# Altium schematic symbol library VNA.SCHLIB: 78 symbols (part 2 of 2)
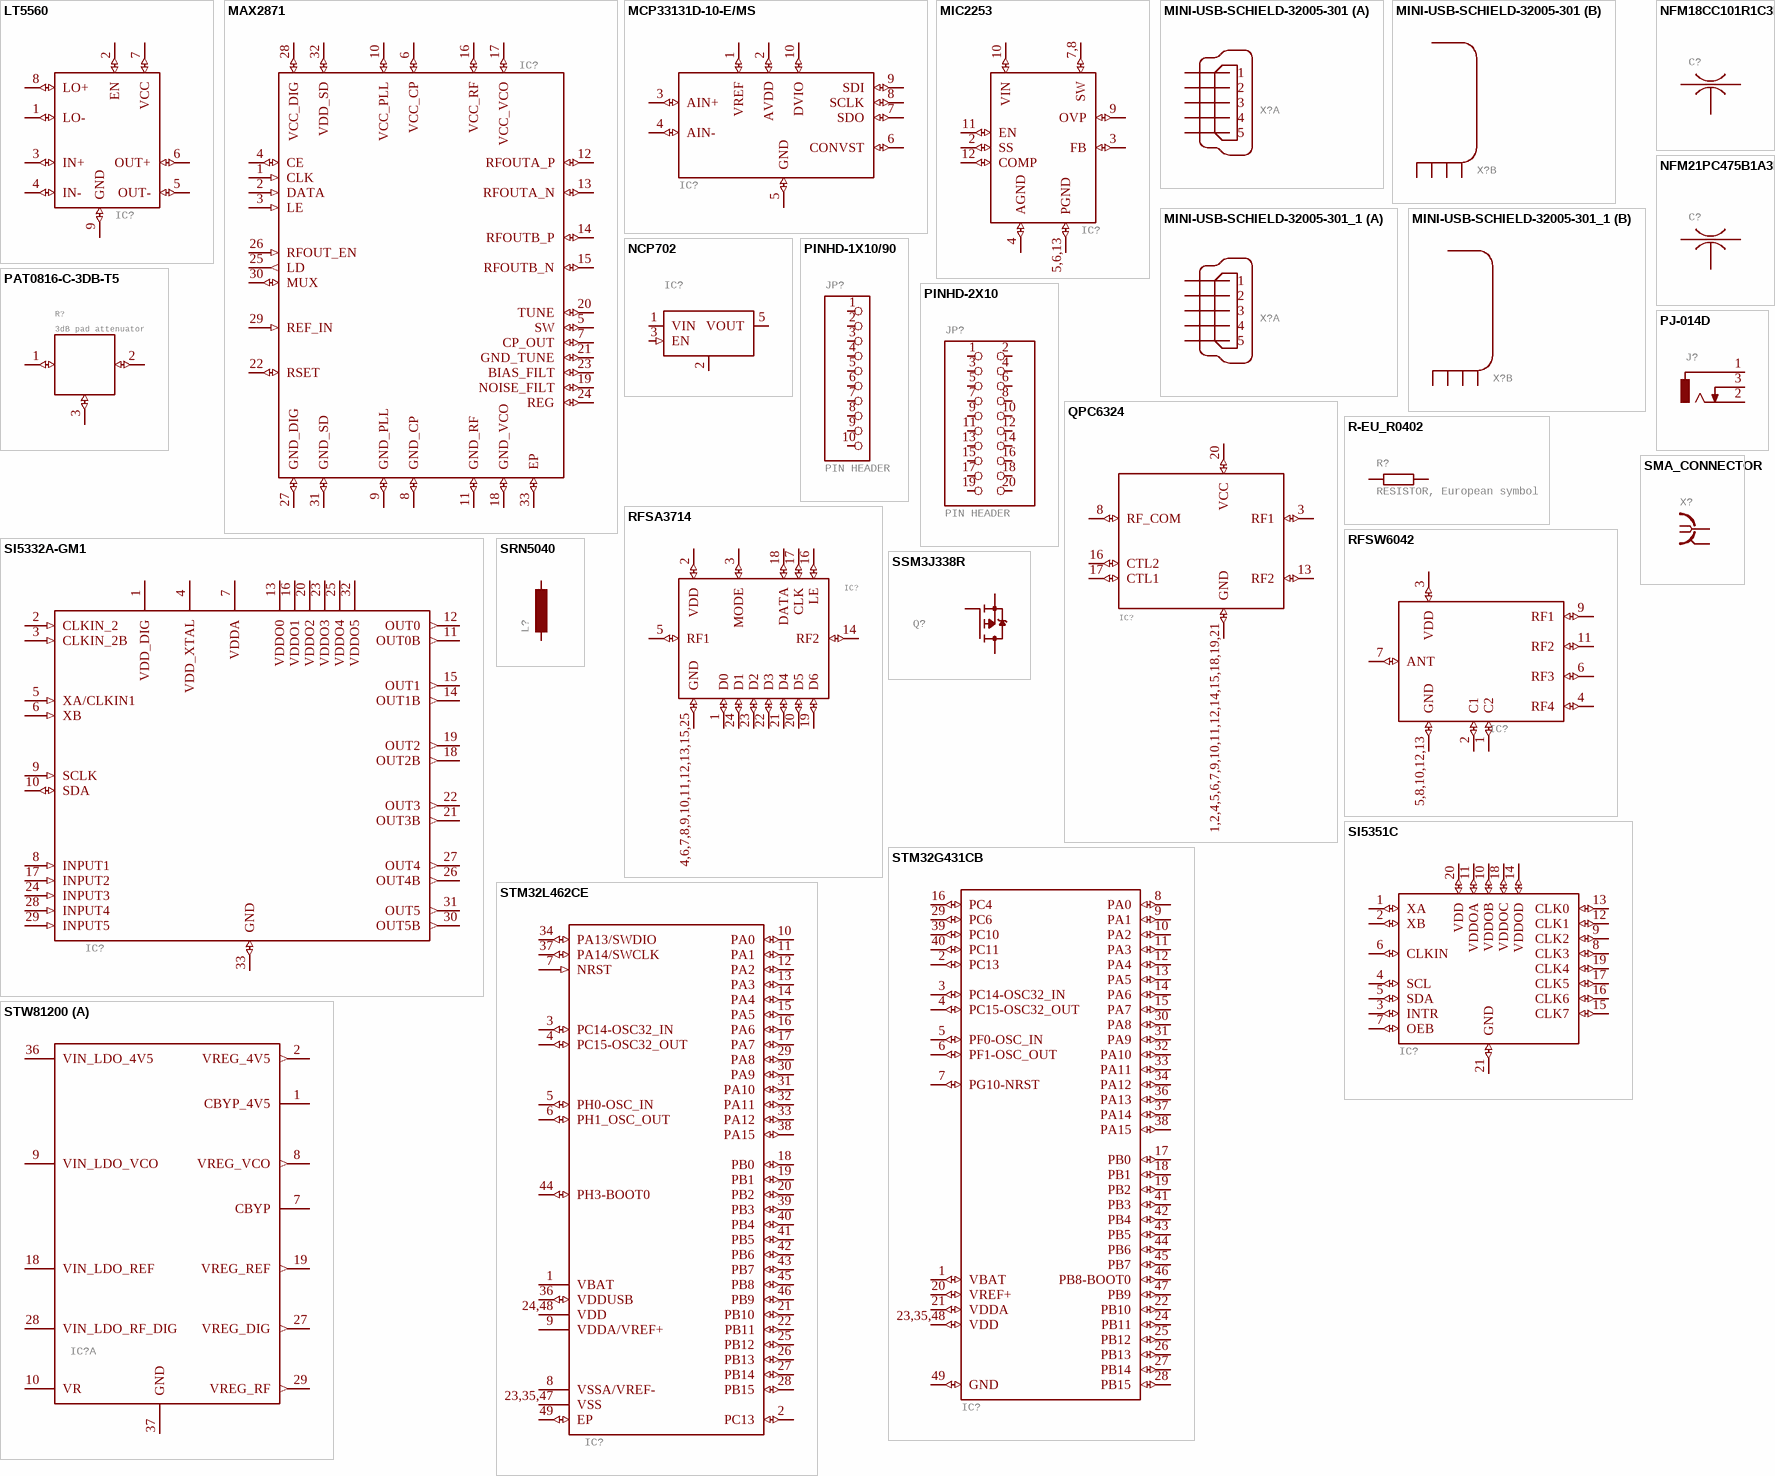
[diagram p6: symbols LT5560 to STW81200]

## STM32L462CE
designator IC?
GateName_1: G$1; SymbolName_1: STM32L462CE; LibraryName: VNA; DeviceSetName: STM32L462CE; Package: QFN50P700X700X60-49T560N
footprint QFN50P700X700X60-49T560N
pins: 1 VBAT (power), 2 PC13 (io), 3 PC14-OSC32_IN (io), 4 PC15-OSC32_OUT (io), 5 PH0-OSC_IN (io), 6 PH1_OSC_OUT (io), 7 NRST (in), 8 VSSA/VREF- (power), 9 VDDA/VREF+ (power), 10 PA0 (io), 11 PA1 (io), 12 PA2 (io), 13 PA3 (io), 14 PA4 (io), 15 PA5 (io), 16 PA6 (io), 17 PA7 (io), 18 PB0 (io), 19 PB1 (io), 20 PB2 (io), 21 PB10 (io), 22 PB11 (io), 23,35,47 VSS (power), 24,48 VDD (power), 25 PB12 (io), 26 PB13 (io), 27 PB14 (io), 28 PB15 (io), 29 PA8 (io), 30 PA9 (io), 31 PA10 (io), 32 PA11 (io), 33 PA12 (io), 34 PA13/SWDIO (io), 36 VDDUSB (io), 37 PA14/SWCLK (io), 38 PA15 (io), 39 PB3 (io), 40 PB4 (io), 41 PB5 (io), 42 PB6 (io), 43 PB7 (io), 44 PH3-BOOT0 (io), 45 PB8 (io), 46 PB9 (io), 49 EP (io)

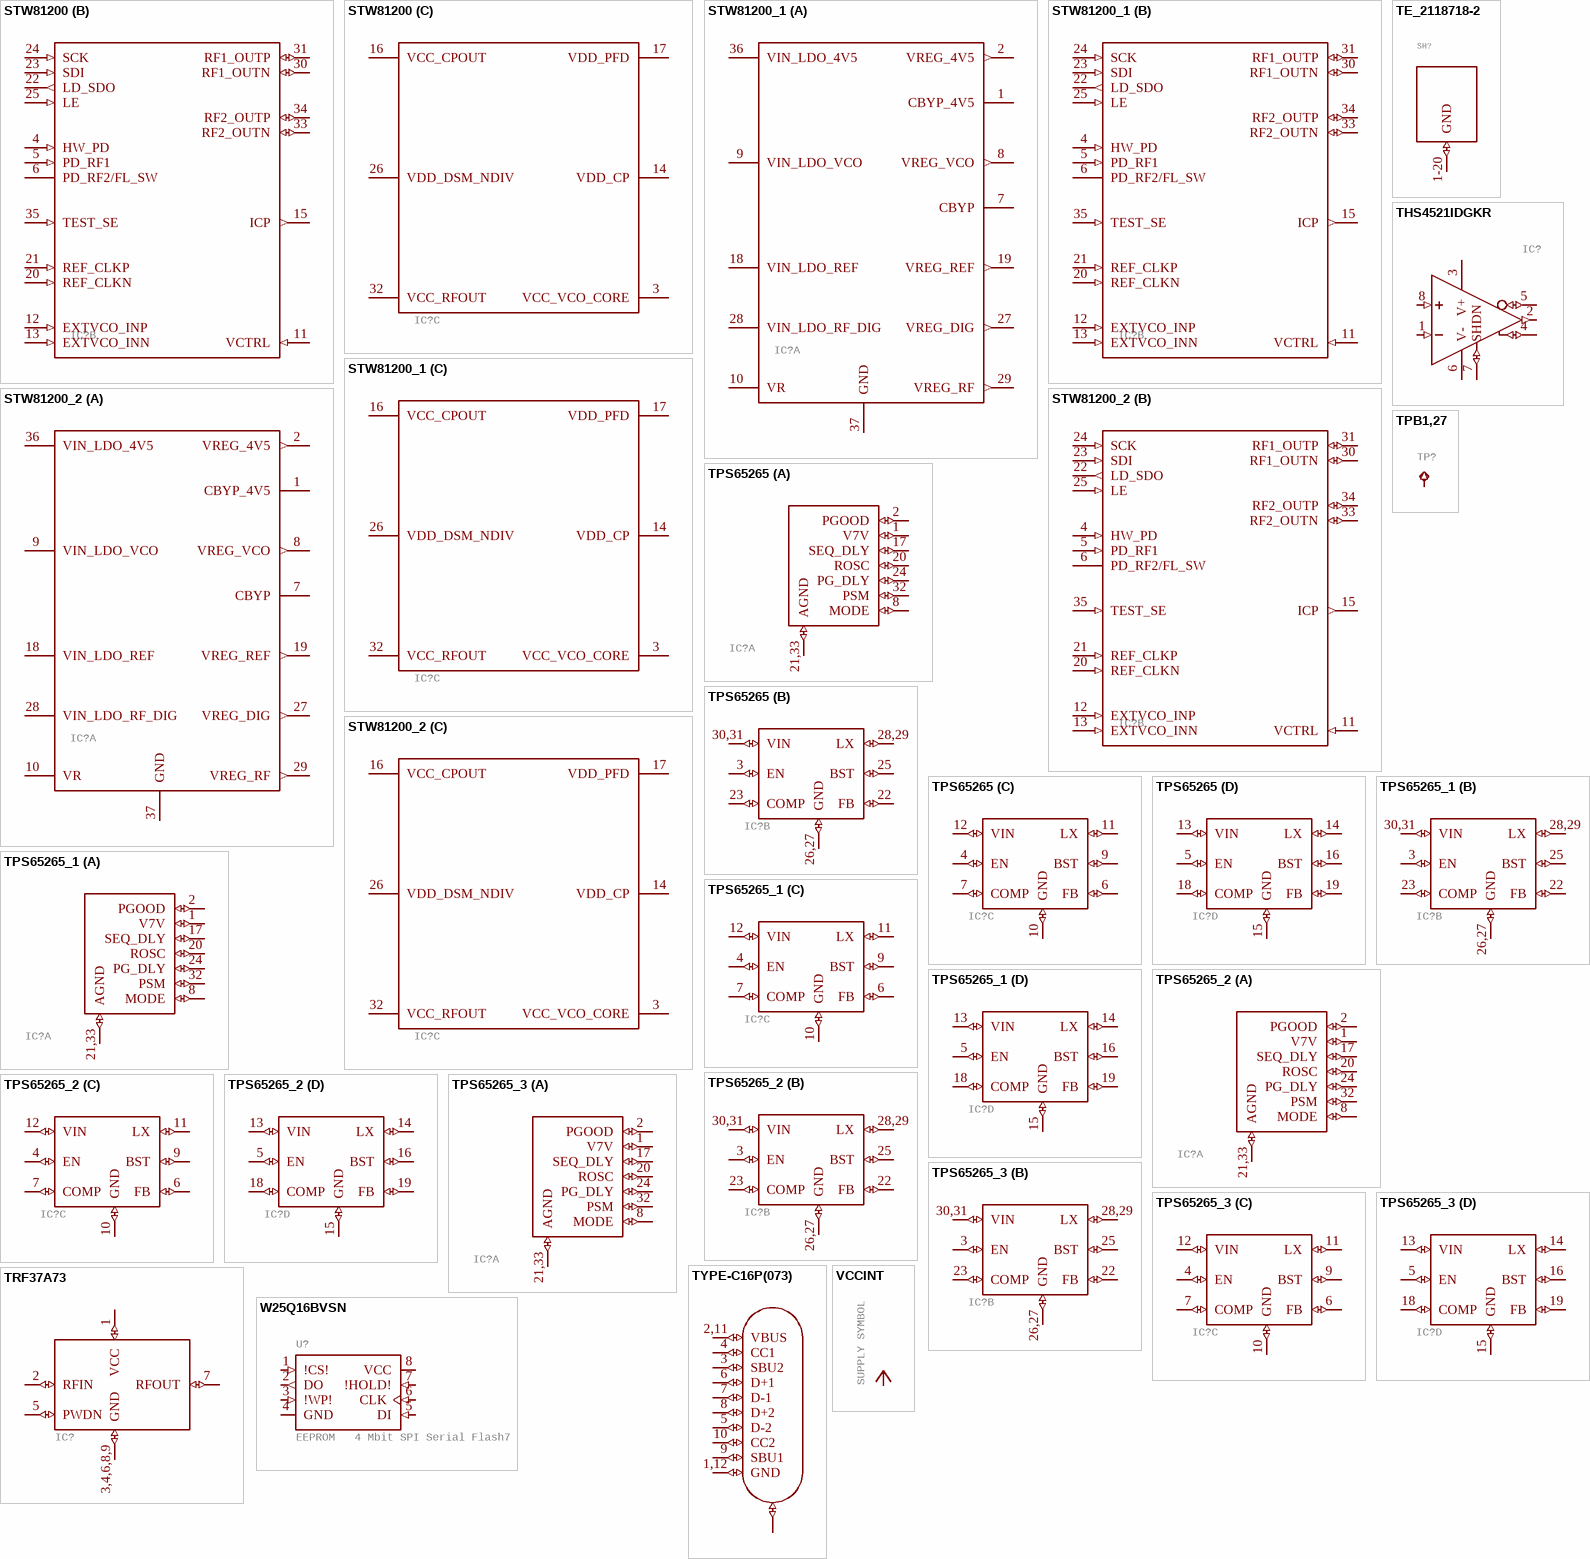
[diagram p5: symbols STW81200 to W25Q16BVSN]

## STW81200
designator IC?
GateName_1: LDO; SymbolName_1: STW8100LDO; GateName_2: RF; SymbolName_2: STW81200RF; GateName_3: SUP; SymbolName_3: STW81200SUPPLY; DeviceSetName: STW81200; LibraryName: VNA; Package: QFN50P600X600X100-37T410N
footprint QFN50P600X600X100-37T410N
part A pins: 1 CBYP_4V5, 2 VREG_4V5 (out), 7 CBYP, 8 VREG_VCO (out), 9 VIN_LDO_VCO (power), 10 VR, 18 VIN_LDO_REF (power), 19 VREG_REF (out), 27 VREG_DIG (out), 28 VIN_LDO_RF_DIG (power), 29 VREG_RF (out), 36 VIN_LDO_4V5 (power), 37 GND (power)
part B pins: 4 HW_PD (in), 5 PD_RF1 (in), 6 PD_RF2/FL_SW (oc), 11 VCTRL (in), 12 EXTVCO_INP (in), 13 EXTVCO_INN (in), 15 ICP (out), 20 REF_CLKN (in), 21 REF_CLKP (in), 22 LD_SDO (out), 23 SDI (in), 24 SCK (in), 25 LE (in), 30 RF1_OUTN (io), 31 RF1_OUTP (io), 33 RF2_OUTN (io), 34 RF2_OUTP (io), 35 TEST_SE (in)
part C pins: 3 VCC_VCO_CORE (power), 14 VDD_CP (power), 16 VCC_CPOUT (power), 17 VDD_PFD (power), 26 VDD_DSM_NDIV (power), 32 VCC_RFOUT (power)

## STW81200_1
designator IC?
GateName_1: LDO; SymbolName_1: STW8100LDO; GateName_2: RF; SymbolName_2: STW81200RF; GateName_3: SUP; SymbolName_3: STW81200SUPPLY; DeviceSetName: STW81200; LibraryName: VNA; Package: QFN50P600X600X100-37T410N
footprint QFN50P600X600X100-37T410N
part A pins: 1 CBYP_4V5, 2 VREG_4V5 (out), 7 CBYP, 8 VREG_VCO (out), 9 VIN_LDO_VCO (power), 10 VR, 18 VIN_LDO_REF (power), 19 VREG_REF (out), 27 VREG_DIG (out), 28 VIN_LDO_RF_DIG (power), 29 VREG_RF (out), 36 VIN_LDO_4V5 (power), 37 GND (power)
part B pins: 4 HW_PD (in), 5 PD_RF1 (in), 6 PD_RF2/FL_SW (oc), 11 VCTRL (in), 12 EXTVCO_INP (in), 13 EXTVCO_INN (in), 15 ICP (out), 20 REF_CLKN (in), 21 REF_CLKP (in), 22 LD_SDO (out), 23 SDI (in), 24 SCK (in), 25 LE (in), 30 RF1_OUTN (io), 31 RF1_OUTP (io), 33 RF2_OUTN (io), 34 RF2_OUTP (io), 35 TEST_SE (in)
part C pins: 3 VCC_VCO_CORE (power), 14 VDD_CP (power), 16 VCC_CPOUT (power), 17 VDD_PFD (power), 26 VDD_DSM_NDIV (power), 32 VCC_RFOUT (power)

## STW81200_2
designator IC?
GateName_1: LDO; SymbolName_1: STW8100LDO; GateName_2: RF; SymbolName_2: STW81200RF; GateName_3: SUP; SymbolName_3: STW81200SUPPLY; DeviceSetName: STW81200; LibraryName: VNA; Package: QFN50P600X600X100-37T410N
footprint QFN50P600X600X100-37T410N
part A pins: 1 CBYP_4V5, 2 VREG_4V5 (out), 7 CBYP, 8 VREG_VCO (out), 9 VIN_LDO_VCO (power), 10 VR, 18 VIN_LDO_REF (power), 19 VREG_REF (out), 27 VREG_DIG (out), 28 VIN_LDO_RF_DIG (power), 29 VREG_RF (out), 36 VIN_LDO_4V5 (power), 37 GND (power)
part B pins: 4 HW_PD (in), 5 PD_RF1 (in), 6 PD_RF2/FL_SW (oc), 11 VCTRL (in), 12 EXTVCO_INP (in), 13 EXTVCO_INN (in), 15 ICP (out), 20 REF_CLKN (in), 21 REF_CLKP (in), 22 LD_SDO (out), 23 SDI (in), 24 SCK (in), 25 LE (in), 30 RF1_OUTN (io), 31 RF1_OUTP (io), 33 RF2_OUTN (io), 34 RF2_OUTP (io), 35 TEST_SE (in)
part C pins: 3 VCC_VCO_CORE (power), 14 VDD_CP (power), 16 VCC_CPOUT (power), 17 VDD_PFD (power), 26 VDD_DSM_NDIV (power), 32 VCC_RFOUT (power)

## TE_2118718-2
designator SH?
GateName_1: G$1; SymbolName_1: SHIELD; DeviceSetName: TE_2118718-2; LibraryName: VNA; Package: TE_2118718-2
footprint TE_2118718-2
pins: 1-20 GND (io)

## THS4521IDGKR
designator IC?
GateName_1: G$1; SymbolName_1: OPAMPDIFF_SHDN; DeviceSetName: THS4521IDGKR; LibraryName: VNA; Package: SOP65P490X110-8N
footprint SOP65P490X110-8N
pins: 1 -IN (in), 2 VOCM (out), 3 V+ (power), 4 +OUT (io), 5 -OUT (io), 6 V- (power), 7 SHDN (io), 8 +IN (in)

## TPB1,27
designator TP?, comment Test pad  (value not drawn)
GateName_1: G$1; SymbolName_1: TP; DeviceName: B1,27; LibraryName: VNA; DeviceSetName: TP; Package: B1,27
footprint B1,27
pins: TP (in)

## TPS65265
designator IC?
GateName_1: COMMON; SymbolName_1: TPS65265COM; GateName_2: G1; SymbolName_2: TPS65265BUCK; GateName_3: G2; GateName_4: G3; DeviceSetName: TPS65265; SymbolName_3: TPS65265BUCK; SymbolName_4: TPS65265BUCK; LibraryName: VNA; Package: QFN50P500X500X100-33T345N
footprint QFN50P500X500X100-33T345N
part A pins: 1 V7V (io), 2 PGOOD (io), 8 MODE (io), 17 SEQ_DLY (io), 20 ROSC (io), 21,33 AGND (io), 24 PG_DLY (io), 32 PSM (io)
part B pins: 3 EN (io), 22 FB (io), 23 COMP (io), 25 BST (io), 26,27 GND (io), 28,29 LX (io), 30,31 VIN (io)
part C pins: 4 EN (io), 6 FB (io), 7 COMP (io), 9 BST (io), 10 GND (io), 11 LX (io), 12 VIN (io)
part D pins: 5 EN (io), 13 VIN (io), 14 LX (io), 15 GND (io), 16 BST (io), 18 COMP (io), 19 FB (io)

## TPS65265_1
designator IC?
GateName_1: COMMON; SymbolName_1: TPS65265COM; GateName_2: G1; SymbolName_2: TPS65265BUCK; GateName_3: G2; GateName_4: G3; DeviceSetName: TPS65265; SymbolName_3: TPS65265BUCK; SymbolName_4: TPS65265BUCK; LibraryName: VNA; Package: QFN50P500X500X100-33T345N
footprint QFN50P500X500X100-33T345N
part A pins: 1 V7V (io), 2 PGOOD (io), 8 MODE (io), 17 SEQ_DLY (io), 20 ROSC (io), 21,33 AGND (io), 24 PG_DLY (io), 32 PSM (io)
part B pins: 3 EN (io), 22 FB (io), 23 COMP (io), 25 BST (io), 26,27 GND (io), 28,29 LX (io), 30,31 VIN (io)
part C pins: 4 EN (io), 6 FB (io), 7 COMP (io), 9 BST (io), 10 GND (io), 11 LX (io), 12 VIN (io)
part D pins: 5 EN (io), 13 VIN (io), 14 LX (io), 15 GND (io), 16 BST (io), 18 COMP (io), 19 FB (io)

## TPS65265_2
designator IC?
GateName_1: COMMON; SymbolName_1: TPS65265COM; GateName_2: G1; SymbolName_2: TPS65265BUCK; GateName_3: G2; GateName_4: G3; DeviceSetName: TPS65265; SymbolName_3: TPS65265BUCK; SymbolName_4: TPS65265BUCK; LibraryName: VNA; Package: QFN50P500X500X100-33T345N
footprint QFN50P500X500X100-33T345N
part A pins: 1 V7V (io), 2 PGOOD (io), 8 MODE (io), 17 SEQ_DLY (io), 20 ROSC (io), 21,33 AGND (io), 24 PG_DLY (io), 32 PSM (io)
part B pins: 3 EN (io), 22 FB (io), 23 COMP (io), 25 BST (io), 26,27 GND (io), 28,29 LX (io), 30,31 VIN (io)
part C pins: 4 EN (io), 6 FB (io), 7 COMP (io), 9 BST (io), 10 GND (io), 11 LX (io), 12 VIN (io)
part D pins: 5 EN (io), 13 VIN (io), 14 LX (io), 15 GND (io), 16 BST (io), 18 COMP (io), 19 FB (io)

## TPS65265_3
designator IC?
GateName_1: COMMON; SymbolName_1: TPS65265COM; GateName_2: G1; SymbolName_2: TPS65265BUCK; GateName_3: G2; GateName_4: G3; DeviceSetName: TPS65265; SymbolName_3: TPS65265BUCK; SymbolName_4: TPS65265BUCK; LibraryName: VNA; Package: QFN50P500X500X100-33T345N
footprint QFN50P500X500X100-33T345N
part A pins: 1 V7V (io), 2 PGOOD (io), 8 MODE (io), 17 SEQ_DLY (io), 20 ROSC (io), 21,33 AGND (io), 24 PG_DLY (io), 32 PSM (io)
part B pins: 3 EN (io), 22 FB (io), 23 COMP (io), 25 BST (io), 26,27 GND (io), 28,29 LX (io), 30,31 VIN (io)
part C pins: 4 EN (io), 6 FB (io), 7 COMP (io), 9 BST (io), 10 GND (io), 11 LX (io), 12 VIN (io)
part D pins: 5 EN (io), 13 VIN (io), 14 LX (io), 15 GND (io), 16 BST (io), 18 COMP (io), 19 FB (io)

## TRF37A73
designator IC?
GateName_1: G$1; SymbolName_1: AMPLIFIER_PWDN; DeviceSetName: TRF37A73; LibraryName: VNA; Package: SON50P200X200X80-9T90X160N
footprint SON50P200X200X80-9T90X160N
pins: 1 VCC (io), 2 RFIN (io), 3,4,6,8,9 GND (io), 5 PWDN (io), 7 RFOUT (io)

## TYPE-C16P(073)
designator J?
GateName_1: G$1; SymbolName_1: USB-C; DeviceSetName: TYPE-C16P(073); LibraryName: VNA; Package: TYPE-C16P
footprint TYPE-C16P
pins: 1,12 GND (io), 2,11 VBUS (io), 3 SBU2 (io), 4 CC1 (io), 5 D-2 (io), 6 D+1 (io), 7 D-1 (io), 8 D+2 (io), 9 SBU1 (io), 10 CC2 (io), M1-4 CASE (io)

## VCCINT
designator VCC?, comment SUPPLY SYMBOL
GateName_1: G$1; SymbolName_1: VCCINT; LibraryName: VNA; DeviceSetName: VCCINT
pins: ?1 VCCINT (power)

## W25Q16BVSN
designator U?, comment EEPROM   4 Mbit SPI Serial Flash7
GateName_1: G$1; SymbolName_1: 25XX; DeviceName: SN; DeviceSetName: W25Q16BV; LibraryName: VNA; Package: SO08
footprint SO08
pins: 1 !CS! (in), 2 DO (out), 3 !WP! (in), 4 GND (power), 5 DI (in), 6 CLK (in), 7 !HOLD! (in), 8 VCC (power)